# Altium footprint library ecg_device_components.PcbLib: 22 footprints (part 1 of 2)
Each footprint in its own frame and in the unit in brackets; x right, y up, seen from the top. Pads: shape width x height; smd on the part's side, far side on the other; paste and mask are expansions set on the pad; w line width, h text height; cw(c..) or ccw(c..) is an arc to the next point about the centre after c.
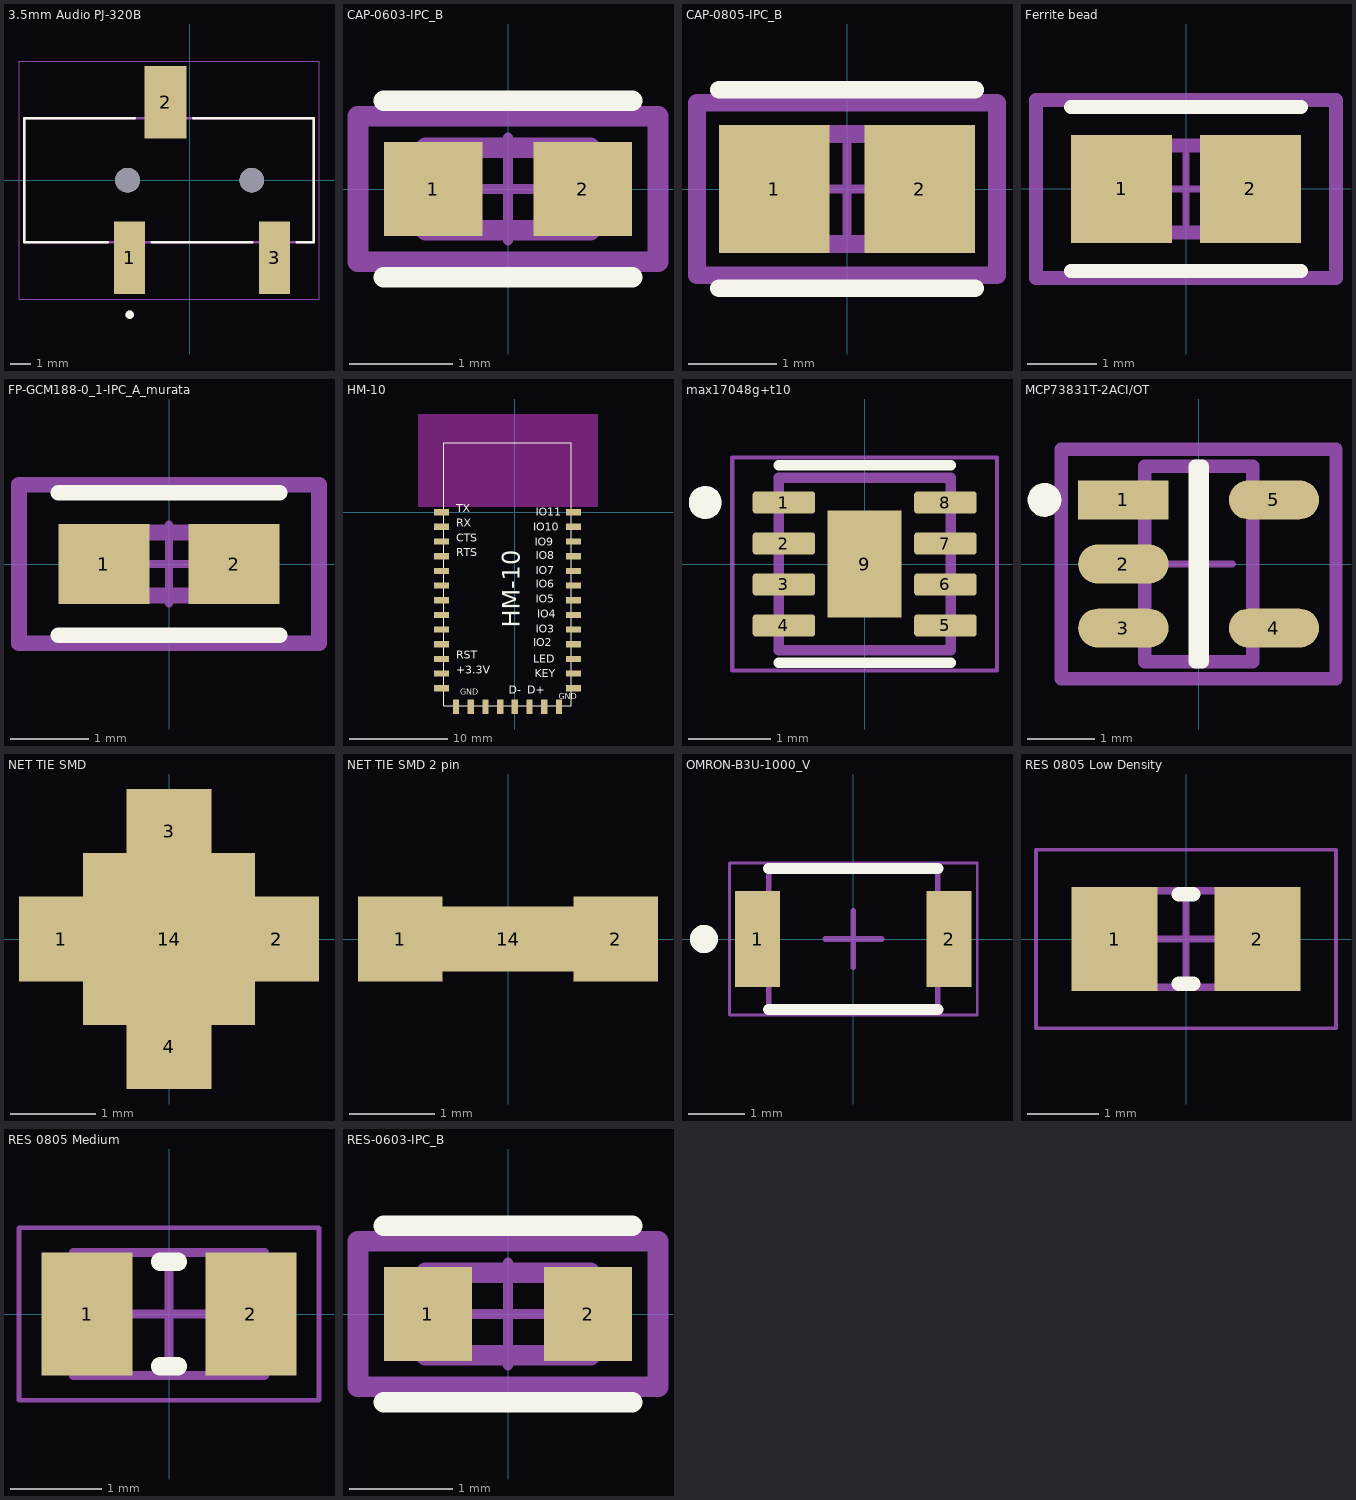
[diagram p0: the footprints below, top view; thin cyan lines are the x and y axes]

## 1K Resistor SMD 0805 [mm] "Largest footprint"

## 3.5mm Audio PJ-320B [mm]
pads (5):
  rect 1.5x3.5 smd: 1(-2.9,-3.75) 3(4.1,-3.75)
  rect 2.032x3.5 smd: 2(-1.168,3.759)
  round 1.2 hole 1.2 unplated: ""(-3,0) ""(3,0)
Top Overlay:
  circle w0.2: c-2.9,-6.5 r0.1
  lines w0.127: -3.97,-3 -8,-3 -8,3 -2.667,3 ; -1.83,-3 3.03,-3 ; 0.17,3 6,3 6,-3 5.17,-3
Mechanical 13:
  circle w0.2: c-2.9,-6.5 r0.1
  lines w0.127: -8,-3 6,-3 6,2.997 -8,2.997 -8,-3
Mechanical 15:
  lines w0.05: -8.25,-5.75 -8.25,5.75 6.25,5.75 6.25,-5.75 -8.25,-5.75
3D body "step_temp.STEP": height 5, standoff -0.5, extent -7.648,-5.123 6.352,5.377

## CAP-0603-IPC_B [mm]
pads (2):
  rect 0.959x0.912 smd paste+0 mask+0: 1(-0.727,0) 2(0.727,0)
Top Overlay:
  lines w0.2: -1.206,-0.856 1.206,-0.856 ; -1.206,0.856 1.206,0.856
Top 3D Body:
  lines w0.2: -0.8,-0.4 0.8,-0.4 0.8,0.4 -0.8,0.4 -0.8,-0.4
Top Courtyard:
  lines w0.2: -1.456,-0.706 1.456,-0.706 1.456,0.706 -1.456,0.706 -1.456,-0.706
Top Assembly:
  lines w0.2: -1.456,-0.706 1.456,-0.706 1.456,0.706 -1.456,0.706 -1.456,-0.706
  text ".Designator" at 0,0.188 h1
Top Component Center:
  lines w0.1: -0.5,0 0.5,0 ; 0,-0.5 0,0.5
3D body "Cap_Murata_GCM1885C2A5R3BA16J_eec.STEP": height 0.25, standoff 0, extent -1.456,-0.706 1.456,0.706

## CAP-0805-IPC_B [mm]
pads (2):
  rect 1.255x1.456 smd paste+0 mask+0: 1(-0.826,0) 2(0.826,0)
Top Overlay:
  lines w0.2: -1.453,-1.128 1.453,-1.128 ; -1.453,1.128 1.453,1.128
Top 3D Body:
  lines w0.2: -1,-0.625 1,-0.625 1,0.625 -1,0.625 -1,-0.625
Top Courtyard:
  lines w0.2: -1.703,-0.978 1.703,-0.978 1.703,0.978 -1.703,0.978 -1.703,-0.978
Top Assembly:
  lines w0.2: -1.703,-0.978 1.703,-0.978 1.703,0.978 -1.703,0.978 -1.703,-0.978
  text ".Designator" at 0,0.188 h1
Top Component Center:
  lines w0.1: -0.5,0 0.5,0 ; 0,-0.5 0,0.5
3D body "Cap_Samsung_CL21B273KBANNNC_eec.STEP": height 0.25, standoff 0, extent -1.703,-0.978 1.703,0.978

## Ferrite bead [mm]
pads (2):
  rect 1.455x1.556 smd paste+0 mask+0: 1(-0.926,0) 2(0.926,0)
Top Overlay:
  lines w0.2: -1.653,-1.178 1.653,-1.178 ; -1.653,1.178 1.653,1.178
Top 3D Body:
  lines w0.2: -1,-0.625 1,-0.625 1,0.625 -1,0.625 -1,-0.625
Top Courtyard:
  lines w0.2: -2.153,-1.278 2.153,-1.278 2.153,1.278 -2.153,1.278 -2.153,-1.278
Top Assembly:
  lines w0.2: -2.153,-1.278 2.153,-1.278 2.153,1.278 -2.153,1.278 -2.153,-1.278
  text ".Designator" at 0,0.188 h1
Top Component Center:
  lines w0.1: -0.5,0 0.5,0 ; 0,-0.5 0,0.5
3D body "FBead_Murata_BLM21AG102SN1D_eec.STEP": height 0.25, standoff 0, extent -2.153,-1.278 2.153,1.278

## FP-GCM188-0_1-IPC_A_murata [mm]
pads (2):
  rect 1.159x1.012 smd paste+0 mask+0: 1(-0.827,0) 2(0.827,0)
Top Overlay:
  lines w0.2: -1.406,-0.906 1.406,-0.906 ; -1.406,0.906 1.406,0.906
Top 3D Body:
  lines w0.2: -0.8,-0.4 -0.8,0.4 0.8,0.4 0.8,-0.4 -0.8,-0.4
Top Courtyard:
  lines w0.2: -1.906,-1.006 -1.906,1.006 1.906,1.006 1.906,-1.006 -1.906,-1.006
Top Assembly:
  lines w0.2: -1.906,-1.006 -1.906,1.006 1.906,1.006 1.906,-1.006 -1.906,-1.006
  text ".Designator" at 0,0.188 h1
Top Component Center:
  lines w0.1: -0.5,0 0.5,0 ; 0,-0.5 0,0.5
3D body "Cap_Murata_GCM1885C2A5R3BA16J_eec.STEP": height 0.25, standoff 0, extent -1.906,-1.006 1.906,1.006

## HM-10 [mm]
pads (34):
  rect 1.5x0.635 smd: 1(-7.5,0) 2(-7.5,-1.5) 3(-7.5,-3) 4(-7.5,-4.5) 5(-7.5,-6) 6(-7.5,-7.5) 8(-7.5,-10.5) 9(-7.5,-12) 10(-7.5,-13.5) 11(-7.5,-15) 12(-7.5,-16.5) 13(-7.5,-18) 22(6,-18) 23(6,-16.5) 24(6,-15) 25(6,-13.5) 26(6,-12) 27(6,-10.5) 28(6,-9) 29(6,-7.5) 30(6,-6) 31(6,-4.5) 32(6,-3) 33(6,-1.5) 34(6,0) $7(-7.5,-9)
  rect 0.635x1.5 smd: 14(-6,-19.875) 15(-4.5,-19.875) 16(-3,-19.875) 17(-1.5,-19.875) 18(0,-19.875) 19(1.5,-19.875) 20(3,-19.875) 21(4.5,-19.875)
Top Layer keep-out:
  rectangle: -9.906,0.508 8.509,10.033
Top Overlay:
  lines w0.127: -7.25,-19.8 -7.25,7.1 5.75,7.1 5.75,-19.8 -7.25,-19.8
  text "HM-10" at 0.508,-11.811 h1.78
  text "IO11" at 2.159,-0.381 h0.81
  text "IO10" at 1.905,-1.905 h0.81
  text "IO9" at 2.032,-3.429 h0.81
  text "IO8" at 2.159,-4.826 h0.81
  text "IO7" at 2.159,-6.35 h0.81
  text "IO6" at 2.159,-7.747 h0.81
  text "IO5" at 2.159,-9.271 h0.81
  text "IO4" at 2.286,-10.795 h0.81
  text "IO3" at 2.159,-12.319 h0.81
  text "IO2" at 1.905,-13.716 h0.81
  text "LED" at 1.905,-15.367 h0.81
  text "KEY" at 2.032,-16.891 h0.81
  text "GND" at 4.5,-19.125 h0.61
  text "D+" at 1.27,-18.542 h0.81
  text "D-" at -0.635,-18.542 h0.81
  text "GND" at -5.588,-18.669 h0.61
  text "+3.3V" at -6,-16.5 h0.81
  text "RST" at -6,-15 h0.81
  text "RTS" at -6,-4.5 h0.81
  text "CTS" at -6,-3 h0.81
  text "RX" at -6,-1.5 h0.81
  text "TX" at -6,0 h0.81
Keep-Out Layer:
  rectangle: -9.906,0.508 8.509,10.033
3D body "step_temp.STEP": height 2.2, standoff 0, extent -7.262,-19.8 5.738,7.1

## max17048g+t10 [mm]
pads (9):
  rrect25% 0.76x0.27 smd: 1(-0.985,0.75) 2(-0.985,0.25) 3(-0.985,-0.25) 4(-0.985,-0.75) 5(0.985,-0.75) 6(0.985,-0.25) 7(0.985,0.25) 8(0.985,0.75)
  rect 0.9x1.3 smd paste-2: 9(0,0)
Top Overlay:
  circle w0.2: c-1.945,0.75 r0.1
  lines w0.127: -1.05,-1.205 1.05,-1.205 ; -1.05,1.205 1.05,1.205
Top Paste:
  region: 0.28,-0.41 -0.28,-0.41 -0.28,0.41 0.28,0.41
Mechanical 13:
  circle w0.2: c-1.945,0.75 r0.1
  lines w0.127: -1.05,-1.05 1.05,-1.05 1.05,1.05 -1.05,1.05 -1.05,-1.05
Mechanical 15:
  lines w0.05: -1.615,-1.3 1.615,-1.3 1.615,1.3 -1.615,1.3 -1.615,-1.3
3D body "step_temp.STEP": height 0.8, standoff 0, extent -1,-1 1,1

## MCP73831T-2ACI/OT [mm]
pads (5):
  rect 1.338x0.578 smd paste+0 mask+0: 1(-1.116,0.95)
  rrect100% 1.338x0.578 smd paste+0 mask+0: 2(-1.116,0) 3(-1.116,-0.95) 4(1.116,-0.95) 5(1.116,0.95)
Top Overlay:
  circle w0.25: c-2.285,0.95 r0.125
  lines w0.2: -0.053,-1.45 -0.053,1.45 0.053,1.45 0.053,-1.45 -0.053,-1.45
Top 3D Body:
  lines w0.2: -0.8,-1.45 0.8,-1.45 0.8,1.45 -0.8,1.45 -0.8,-1.45
Top Courtyard:
  lines w0.2: -2.035,-1.7 2.035,-1.7 2.035,1.7 -2.035,1.7 -2.035,-1.7
Top Assembly:
  lines w0.2: -2.035,-1.7 2.035,-1.7 2.035,1.7 -2.035,1.7 -2.035,-1.7
  text ".Designator" at 0,0.188 h1
Top Component Center:
  lines w0.1: -0.5,0 0.5,0 ; 0,-0.5 0,0.5

## NET TIE SMD [mm]
pads (5):
  rect 1x1 smd mask+0: 1(-1.27,0) 3(0,1.27) 4(0,-1.27)
  rect 1x1 smd paste-2539.97 mask+0: 2(1.27,0)
  rect 2.032x2.032 smd mask+0: 14(0,0)

## NET TIE SMD 2 pin [mm]
pads (3):
  rect 1x1 smd mask+0: 1(-1.27,0)
  rect 1x1 smd paste-2539.97 mask+0: 2(1.27,0)
  rect 2.032x0.762 smd mask+0: 14(0,0)

## OMRON-B3U-1000_V [mm] "SMD, 2-Leads, Body 3x2.5mm"
height 1.75
pads (2):
  rect 0.8x1.7 smd: 1(-1.7,0) 2(1.7,0)
Top Overlay:
  circle w0.25: c-2.65,0 r0.125
  lines w0.2: -1.5,-1.25 1.5,-1.25 ; -1.5,1.25 1.5,1.25
Mechanical 13:
  lines w0.1: -1.5,-1.25 1.5,-1.25 1.5,1.25 -1.5,1.25 -1.5,-1.25
Mechanical 15:
  lines w0.05: -2.2,-1.35 2.2,-1.35 2.2,1.35 -2.2,1.35 -2.2,-1.35
  lines w0.1: -0.5,0 0.5,0 ; 0,-0.5 0,0.5
3D body: height 1.75, standoff 1.35, extent -0.75,-0.75 0.75,0.75
3D body: height 1.35, standoff 0, extent -1.5,-1.25 1.5,1.25

## PCBComponent_1 [mm]

## RES 0805 Low Density [mm] "Chip Resistor, 2-Leads, Body 2.1x1.35mm, IPC Low Density"
height 0.6
pads (2):
  rect 1.2x1.45 smd: 1(-1,0) 2(1,0)
Top Overlay:
  lines w0.2: -0.1,-0.625 0.1,-0.625 ; -0.1,0.625 0.1,0.625
Mechanical 13:
  lines w0.1: -1.05,-0.675 -1.05,0.675 1.05,0.675 1.05,-0.675 -1.05,-0.675
Mechanical 15:
  lines w0.05: -2.1,-1.25 -2.1,1.25 2.1,1.25 2.1,-1.25 -2.1,-1.25
  lines w0.1: -0.5,0 0.5,0 ; 0,-0.5 0,0.5
3D body "RESC2012X06N.step": height 0.6, standoff 0, extent -1.05,-0.675 1.05,0.675

## RES 0805 Medium [mm] "Chip Resistor, 2-Leads, Body 2.1x1.35mm, IPC Medium Density"
height 0.6
pads (2):
  rect 1x1.35 smd: 1(-0.9,0) 2(0.9,0)
Top Overlay:
  lines w0.2: -0.1,-0.575 0.1,-0.575 ; -0.1,0.575 0.1,0.575
Mechanical 13:
  lines w0.1: -1.05,-0.675 -1.05,0.675 1.05,0.675 1.05,-0.675 -1.05,-0.675
Mechanical 15:
  lines w0.05: -1.65,-0.95 -1.65,0.95 1.65,0.95 1.65,-0.95 -1.65,-0.95
  lines w0.1: -0.5,0 0.5,0 ; 0,-0.5 0,0.5
3D body "RESC2012X06N.step": height 0.6, standoff 0, extent -1.05,-0.675 1.05,0.675

## RES-0603-IPC_B [mm]
pads (2):
  rect 0.859x0.912 smd paste+0 mask+0: 1(-0.777,0) 2(0.777,0)
Top Overlay:
  lines w0.2: -1.206,-0.856 1.206,-0.856 ; -1.206,0.856 1.206,0.856
Top 3D Body:
  lines w0.2: -0.8,-0.4 0.8,-0.4 0.8,0.4 -0.8,0.4 -0.8,-0.4
Top Courtyard:
  lines w0.2: -1.456,-0.706 1.456,-0.706 1.456,0.706 -1.456,0.706 -1.456,-0.706
Top Assembly:
  lines w0.2: -1.456,-0.706 1.456,-0.706 1.456,0.706 -1.456,0.706 -1.456,-0.706
  text ".Designator" at 0,0.188 h1
Top Component Center:
  lines w0.1: -0.5,0 0.5,0 ; 0,-0.5 0,0.5
3D body "Res_Yageo_AT0603BRD07200RL_eec.STEP": height 0.25, standoff 0, extent -1.456,-0.706 1.456,0.706